# Altium footprint library PCB1.PcbLib: 36 footprints (part 1 of 3)
Each footprint in its own frame and in the unit in brackets; x right, y up, seen from the top. Pads: shape width x height; smd on the part's side, far side on the other; paste and mask are expansions set on the pad; w line width, h text height; cw(c..) or ccw(c..) is an arc to the next point about the centre after c.
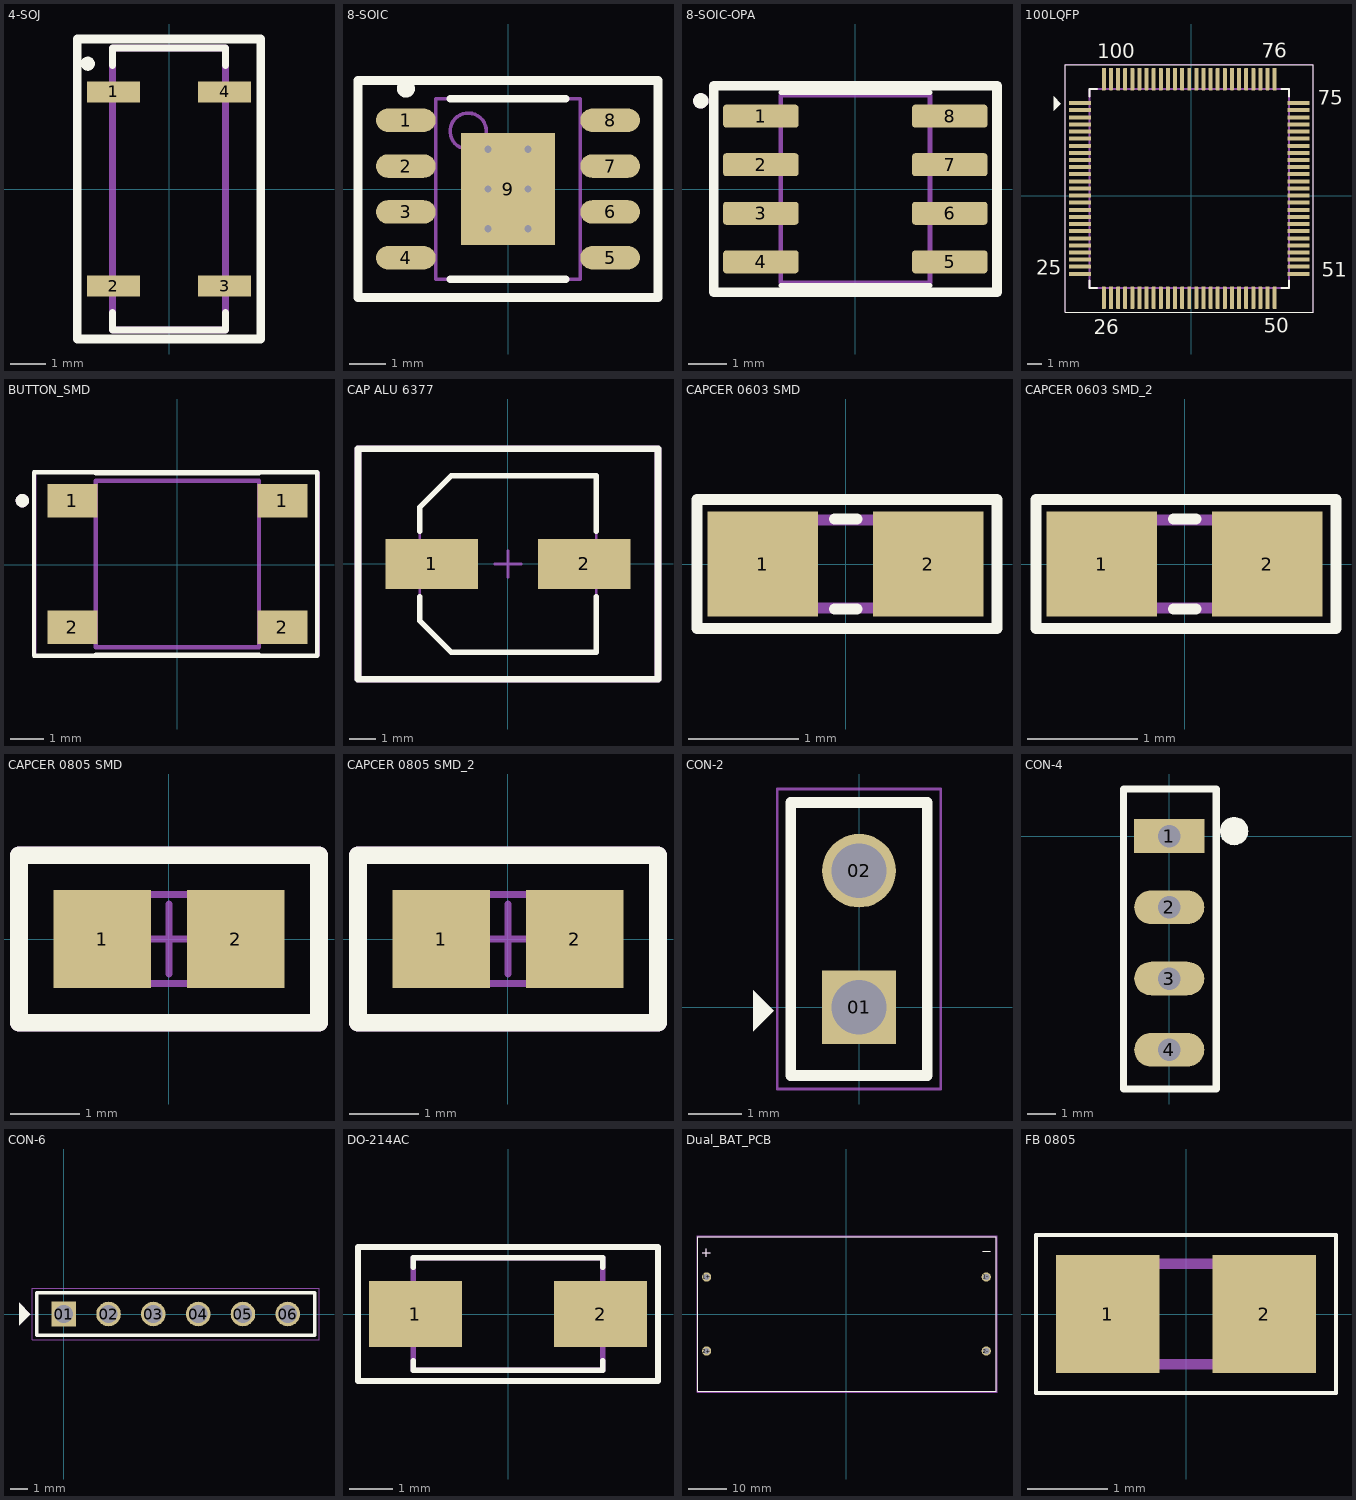
[diagram p0: the footprints below, top view; thin cyan lines are the x and y axes]

## 4-SOJ [mm]
pads (4):
  rect 1.5x0.6 smd: 1(-1.575,2.75) 2(-1.575,-2.75) 3(1.575,-2.75) 4(1.575,2.75)
Top Overlay:
  circle w0.2: c-2.3,3.55 r0.1
  lines w0.2: -1.6,-3.5 -1.6,-4 1.6,-4 1.6,-3.5 ; -1.6,3.5 -1.6,4 1.6,4 1.6,3.5
  lines w0.254: -2.6,-4.25 2.6,-4.25 2.6,4.25 -2.6,4.25 -2.6,-4.25
Mechanical 13:
  lines w0.2: -1.6,-4 -1.6,4 1.6,4 1.6,-4 -1.6,-4
Mechanical 15:
  lines w0.05: -2.6,-4.25 -2.6,4.25 2.6,4.25 2.6,-4.25 -2.6,-4.25
3D body "MC-306 32.7680K-A0_ROHS.STEP": height 2.54, standoff 0, extent -1.85,-4 1.85,4

## 8-SOIC [mm] "SOIC, 8-Leads, Body 4.90x3.90mm, Pitch 1.27mm, Thermal Pad 3.10x2.60mm, IPC Low Density"
height 1.7
pads (9):
  oval 1.65x0.65 smd: 1(-2.825,1.905) 2(-2.825,0.635) 3(-2.825,-0.635) 4(-2.825,-1.905) 5(2.825,-1.905) 6(2.825,-0.635) 7(2.825,0.635) 8(2.825,1.905)
  rect 2.6x3.1 smd: 9(0,0)
via -0.55,1.1 diameter 0.5 hole 0.2
via 0.55,1.1 diameter 0.5 hole 0.2
via -0.55,0 diameter 0.5 hole 0.2
via 0.55,0 diameter 0.5 hole 0.2
via -0.55,-1.1 diameter 0.5 hole 0.2
via 0.55,-1.1 diameter 0.5 hole 0.2
Top Overlay:
  circle w0.25: c-2.825,2.78 r0.125
  lines w0.2: -1.6,-2.5 1.6,-2.5 ; -1.6,2.5 1.6,2.5
  lines w0.254: -4.15,-3 -4.15,3 4.15,3 4.15,-3 -4.15,-3
Top Courtyard:
  lines w0.05: -4.15,-3 -4.15,3 4.15,3 4.15,-3 -4.15,-3
  lines w0.1: -0.5,0 0.5,0 ; 0,-0.5 0,0.5
Top Assembly:
  circle w0.1: c-1.1,1.6 r0.5
  lines w0.1: -2,-2.5 -2,2.5 2,2.5 2,-2.5 -2,-2.5
3D body "8-SOIC.step": height 1.7, standoff 0, extent -3,-2.5 3,2.5

## 8-SOIC-OPA [mm]
pads (8):
  rrect25% 1.97x0.6 smd: 1(-2.47,1.905) 2(-2.47,0.635) 3(-2.47,-0.635) 4(-2.47,-1.905) 5(2.47,-1.905) 6(2.47,-0.635) 7(2.47,0.635) 8(2.47,1.905)
Top Overlay:
  circle w0.2: c-4.04,2.305 r0.1
  lines w0.127: -1.95,-2.525 1.95,-2.525 ; -1.95,2.525 1.95,2.525
  lines w0.254: -3.705,-2.702 3.705,-2.702 3.705,2.702 -3.705,2.702 -3.705,-2.702
Mechanical 13:
  circle w0.2: c-4.04,2.305 r0.1
  lines w0.127: -1.95,-2.452 -1.95,2.452 1.95,2.452 1.95,-2.452 -1.95,-2.452
Mechanical 15:
  lines w0.05: -3.705,-2.702 3.705,-2.702 3.705,2.702 -3.705,2.702 -3.705,-2.702
3D body "step_temp.STEP": height 1.75, standoff 0, extent -2.997,-2.451 2.997,2.451

## 100LQFP [mm]
pads (100):
  rrect25% 1.56x0.28 smd: 1(-7.807,6.508) 2(-7.807,6.008) 3(-7.807,5.508) 4(-7.807,5.008) 5(-7.807,4.508) 6(-7.807,4.008) 7(-7.807,3.508) 8(-7.807,3.008) 9(-7.807,2.508) 10(-7.807,2.008) 11(-7.807,1.508) 12(-7.807,1.008) 13(-7.807,0.508) 14(-7.807,0.008) 15(-7.807,-0.492) 16(-7.807,-0.992) 17(-7.807,-1.492) 18(-7.807,-1.992) 19(-7.807,-2.492) 20(-7.807,-2.992) 21(-7.807,-3.492) 22(-7.807,-3.992) 23(-7.807,-4.492) 24(-7.807,-4.992) 25(-7.807,-5.492) 51(7.553,-5.492) 52(7.553,-4.992) 53(7.553,-4.492) 54(7.553,-3.992) 55(7.553,-3.492) 56(7.553,-2.992) 57(7.553,-2.492) 58(7.553,-1.992) 59(7.553,-1.492) 60(7.553,-0.992) 61(7.553,-0.492) 62(7.553,0.008) 63(7.553,0.508) 64(7.553,1.008) 65(7.553,1.508) 66(7.553,2.008) 67(7.553,2.508) 68(7.553,3.008) 69(7.553,3.508) 70(7.553,4.008) 71(7.553,4.508) 72(7.553,5.008) 73(7.553,5.508) 74(7.553,6.008) 75(7.553,6.508)
  rrect25% 0.28x1.56 smd: 26(-6.127,-7.172) 27(-5.627,-7.172) 28(-5.127,-7.172) 29(-4.627,-7.172) 30(-4.127,-7.172) 31(-3.627,-7.172) 32(-3.127,-7.172) 33(-2.627,-7.172) 34(-2.127,-7.172) 35(-1.627,-7.172) 36(-1.127,-7.172) 37(-0.627,-7.172) 38(-0.127,-7.172) 39(0.373,-7.172) 40(0.873,-7.172) 41(1.373,-7.172) 42(1.873,-7.172) 43(2.373,-7.172) 44(2.873,-7.172) 45(3.373,-7.172) 46(3.873,-7.172) 47(4.373,-7.172) 48(4.873,-7.172) 49(5.373,-7.172) 50(5.873,-7.172) 76(5.873,8.188) 77(5.373,8.188) 78(4.873,8.188) 79(4.373,8.188) 80(3.873,8.188) 81(3.373,8.188) 82(2.873,8.188) 83(2.373,8.188) 84(1.873,8.188) 85(1.373,8.188) 86(0.873,8.188) 87(0.373,8.188) 88(-0.127,8.188) 89(-0.627,8.188) 90(-1.127,8.188) 91(-1.627,8.188) 92(-2.127,8.188) 93(-2.627,8.188) 94(-3.127,8.188) 95(-3.627,8.188) 96(-4.127,8.188) 97(-4.627,8.188) 98(-5.127,8.188) 99(-5.627,8.188) 100(-6.127,8.188)
Top Overlay:
  region: -9.652,6.985 -9.652,5.969 -9.144,6.477
  lines w0.05: -8.837,-8.202 -8.837,9.218 8.583,9.218 8.583,-8.202 -8.837,-8.202
  lines w0.127: -7.127,-5.952 -7.127,-6.492 -6.587,-6.492 ; -7.127,6.968 -7.127,7.508 -6.587,7.508 ; 6.333,-6.492 6.873,-6.492 6.873,-5.952 ; 6.333,7.508 6.873,7.508 6.873,6.968
  text "100" at -6.59,9.65 h1.02
  text "76" at 4.978,9.677 h1.02
  text "75" at 8.915,6.375 h1.02
  text "51" at 9.169,-5.69 h1.02
  text "50" at 5.105,-9.627 h1.02
  text "26" at -6.833,-9.754 h1.02
  text "25" at -10.897,-5.563 h1.02
Mechanical 13:
  lines w0.127: -7.127,-6.492 -7.127,7.508 6.873,7.508 6.873,-6.492 -7.127,-6.492
Mechanical 15:
  lines w0.05: -8.839,-8.2 -8.839,9.22 8.581,9.22 8.581,-8.2 -8.839,-8.2
3D body "step_temp.STEP": height 1.6, standoff 0, extent -8.127,-7.492 7.873,8.508

## BUTTON_SMD [mm]
pads (4):
  rect 1.5x1 smd: 1(-3.15,1.925) 1(3.15,1.925) 2(-3.15,-1.875) 2(3.15,-1.875)
Top Overlay:
  circle w0.2: c-4.65,1.925 r0.1
  lines w0.127: -2.45,-2.695 2.45,-2.695 ; -2.45,2.745 2.45,2.745 ; -4.301,-2.725 4.199,-2.725 4.199,2.775 -4.301,2.775 -4.301,-2.725
Mechanical 13:
  circle w0.2: c-4.65,1.925 r0.1
  lines w0.127: -2.45,-2.475 2.45,-2.475 2.45,2.525 -2.45,2.525 -2.45,-2.475
Mechanical 15:
  lines w0.05: -4.25,-2.725 4.25,-2.725 4.25,2.775 -4.25,2.775 -4.25,-2.725
3D body "c-8-1437565-1-j-3d.stp": height 1.52, standoff 0.02, extent -3.3,-2.475 3.3,2.525

## CAP ALU 6377 [mm] "Aluminum Electrolytic Capacitor, Body 6.60x6.60x7.70mm, IPC Low Density"
height 7.7
pads (2):
  rect 3.45x1.85 smd: 1(-2.85,0) 2(2.85,0)
Top Overlay:
  lines w0.2: -3.3,-1.225 -3.3,-2.113 -2.113,-3.3 3.3,-3.3 3.3,-1.225 ; -3.3,1.225 -3.3,2.113 -2.113,3.3 3.3,3.3 3.3,1.225
  lines w0.254: -5.6,-4.3 -5.6,4.3 5.6,4.3 5.6,-4.3 -5.6,-4.3
Top Courtyard:
  lines w0.1: -0.5,0 0.5,0 ; 0,-0.5 0,0.5
  lines w0.254: -5.6,-4.3 -5.6,4.3 5.6,4.3 5.6,-4.3 -5.6,-4.3
Top Assembly:
  lines w0.1: -3.3,-2.113 -2.113,-3.3 3.3,-3.3 3.3,3.3 -2.113,3.3 -3.3,2.113 -3.3,-2.113
3D body "CAP ALU 6377.step": height 7.7, standoff 0, extent -3.8,-3.3 3.8,3.3

## CAPCER 0603 SMD [mm]
pads (2):
  rect 1x0.95 smd mask+0.076: 1(-0.75,0) 2(0.75,0)
Top Overlay:
  lines w0.102: -0.102,-0.406 0.102,-0.406 ; -0.102,0.406 0.102,0.406 ; -1.346,-0.584 1.372,-0.584 1.372,0.584 -1.346,0.584 -1.346,-0.584
Mechanical 13:
  lines w0.1: -0.8,-0.4 0.8,-0.4 0.8,0.4 -0.8,0.4 -0.8,-0.4
3D body "User Library-CAPC1608X09.step": height 0.9, standoff 0, extent -0.8,-0.4 0.8,0.4

## CAPCER 0603 SMD_2 [mm]
pads (2):
  rect 1x0.95 smd mask+0.076: 1(-0.75,0) 2(0.75,0)
Top Overlay:
  lines w0.102: -0.102,-0.406 0.102,-0.406 ; -0.102,0.406 0.102,0.406 ; -1.346,-0.584 1.372,-0.584 1.372,0.584 -1.346,0.584 -1.346,-0.584
Mechanical 13:
  lines w0.1: -0.8,-0.4 0.8,-0.4 0.8,0.4 -0.8,0.4 -0.8,-0.4
3D body "User Library-CAPC1608X09.step": height 0.9, standoff 0, extent -0.8,-0.4 0.8,0.4

## CAPCER 0805 SMD [mm]
height 1.25
pads (2):
  rect 1.4x1.4 smd: 1(-0.955,0) 2(0.955,0)
Top Overlay:
  lines w0.254: -2.15,-1.2 2.15,-1.2 2.15,1.2 -2.15,1.2 -2.15,-1.2
Top Courtyard:
  lines w0.1: -0.5,0 0.5,0 ; 0,-0.5 0,0.5
  lines w0.254: -2.15,-1.2 2.15,-1.2 2.15,1.2 -2.15,1.2 -2.15,-1.2
Top Assembly:
  lines w0.1: -1,-0.635 1,-0.635 1,0.635 -1,0.635 -1,-0.635
3D body "CAPCER 0805 SMD.step": height 1.25, standoff 0, extent -1,-0.635 1,0.635

## CAPCER 0805 SMD_2 [mm]
pads (2):
  rect 1.4x1.4 smd: 1(-0.955,0) 2(0.955,0)
Top Overlay:
  lines w0.254: -2.15,-1.2 2.15,-1.2 2.15,1.2 -2.15,1.2 -2.15,-1.2
Top Courtyard:
  lines w0.1: -0.5,0 0.5,0 ; 0,-0.5 0,0.5
  lines w0.254: -2.15,-1.2 2.15,-1.2 2.15,1.2 -2.15,1.2 -2.15,-1.2
Top Assembly:
  lines w0.1: -1,-0.635 1,-0.635 1,0.635 -1,0.635 -1,-0.635
3D body "CAPCER 0805 SMD.step": height 1.25, standoff 0, extent -1,-0.635 1,0.635

## CON-2 [mm]
pads (2):
  rect 1.37x1.37 hole 1.02: 01(0,0)
  round 1.37 hole 1.02: 02(0,2.54)
Top Overlay:
  region: -1.968,-0.445 -1.968,0.318 -1.587,-0.064
  lines w0.2: -1.27,-1.27 1.27,-1.27 1.27,3.81 -1.27,3.81 -1.27,-1.27
Mechanical 13:
  lines w0.1: -1.27,-1.27 1.27,-1.27 1.27,3.81 -1.27,3.81 -1.27,-1.27
Mechanical 15:
  lines w0.05: -1.52,-1.52 1.52,-1.52 1.52,4.06 -1.52,4.06 -1.52,-1.52
3D body "MTSW-101-08-S-D-318.stp": height 10.62, standoff -2.84, extent -1.27,-1.27 1.27,3.81

## CON-4 [mm]
pads (5):
  rect 2.5x1.2 hole 0.8: 1(0,0)
  oval 2.5x1.2 hole 0.8: 2(0,-2.54) 3(0,-5.08) 4(0,-7.62)
  round 1.016 on Top Overlay: ""(2.311,0.178)
Top Overlay:
  lines w0.254: -1.626,-9.017 1.676,-9.017 1.676,0.914 1.676,1.676 -1.626,1.676 -1.626,-9.017
3D body "65781.stp": height 8.55, standoff -2.99, extent -1.143,-8.763 1.397,1.397

## CON-6 [mm]
pads (6):
  rect 1.39x1.39 / inner round 1.39 / far side rect 1.39x1.39 hole 1.04: 01(0,0)
  round 1.39 hole 1.04: 02(2.54,0) 03(5.08,0) 04(7.62,0) 05(10.16,0) 06(12.7,0)
Top Overlay:
  region: -2.54,0.635 -2.54,-0.635 -1.905,0
  lines w0.2: -1.525,-1.206 -1.525,1.206 14.225,1.206 14.225,-1.206 -1.525,-1.206
Mechanical 1:
  region: -2.54,0.635 -2.54,-0.635 -1.905,0
Mechanical 13:
  lines w0.1: -1.525,-1.206 -1.525,1.206 ; -1.525,-1.206 14.225,-1.206 ; -1.525,-1.206 -1.525,1.206 ; -1.525,1.206 14.225,1.206 ; -1.525,1.206 14.225,1.206 ; 14.225,-1.206 14.225,1.206 ; 14.225,-1.206 14.225,1.206
Mechanical 15:
  lines w0.05: -1.775,-1.456 -1.775,1.456 14.475,1.456 14.475,-1.456 -1.775,-1.456
3D body "SSW-106-03-F-S.stp": height 8.51, standoff -10.01, extent -1.525,-1.206 14.223,1.206

## DO-214AC [mm]
pads (2):
  rect 2.12x1.5 smd: 1(-2.115,0) 2(2.115,0)
Top Overlay:
  lines w0.127: -2.165,-1.07 -2.165,-1.28 2.165,-1.28 2.165,-1.07 ; -2.165,1.07 -2.165,1.28 2.165,1.28 2.165,1.07 ; -3.425,-1.53 3.425,-1.53 3.425,1.53 -3.425,1.53 -3.425,-1.53
Mechanical 13:
  lines w0.127: -2.165,-1.28 -2.165,1.28 2.165,1.28 2.165,-1.28 -2.165,-1.28
Mechanical 15:
  lines w0.05: -3.425,-1.53 -3.425,1.53 3.425,1.53 3.425,-1.53 -3.425,-1.53
3D body "SMAJ5.0CA.STEP": height 2.5, standoff 0, extent -2.57,-1.27 2.57,1.29

## Dual_BAT_PCB [mm]
pads (4):
  round 2.4 hole 1.6: 1+(-36.422,9.726) 1-(36.478,9.726) 2+(-36.422,-9.574) 2-(36.478,-9.574)
Top Overlay:
  lines w0.127: -37.504,16.027 -35.504,16.027 ; -36.504,15.027 -36.504,17.027 ; 35.525,16.485 37.525,16.485 ; -38.672,-20.029 -38.672,20.181 39.028,20.181 39.028,-20.029 -38.672,-20.029
Mechanical 13:
  lines w0.127: -37.504,16.027 -35.504,16.027 ; -36.504,15.027 -36.504,17.027 ; 35.525,16.485 37.525,16.485 ; -38.672,-20.029 -38.672,20.181 39.028,20.181 39.028,-20.029 -38.672,-20.029
Mechanical 15:
  lines w0.05: -38.922,-20.279 -38.922,20.431 39.278,20.431 39.278,-20.279 -38.922,-20.279
3D body "BK-18650-PC4--3DModel-STEP-56544.STEP": height 24.74, standoff 0, extent -38.557,-20.068 39.143,20.142

## FB 0805 [mm]
pads (2):
  rect 1.285x1.47 smd: 1(-0.973,0) 2(0.973,0)
Top Overlay:
  lines w0.05: -1.865,-0.985 -1.865,0.985 1.865,0.985 1.865,-0.985 -1.865,-0.985
Mechanical 13:
  lines w0.127: -1,-0.625 1,-0.625 1,0.625 -1,0.625 -1,-0.625
Mechanical 15:
  lines w0.05: -1.865,-0.985 1.865,-0.985 1.865,0.985 -1.865,0.985 -1.865,-0.985
3D body "step_temp.STEP": height 1.1, standoff 0, extent -1,-0.625 1,0.625